# Altium footprint library Papilio_DUO.PcbLib: 39 footprints (part 1 of 3)
Each footprint in its own frame and in the unit in brackets; x right, y up, seen from the top. Pads: shape width x height; smd on the part's side, far side on the other; paste and mask are expansions set on the pad; w line width, h text height; cw(c..) or ccw(c..) is an arc to the next point about the centre after c.
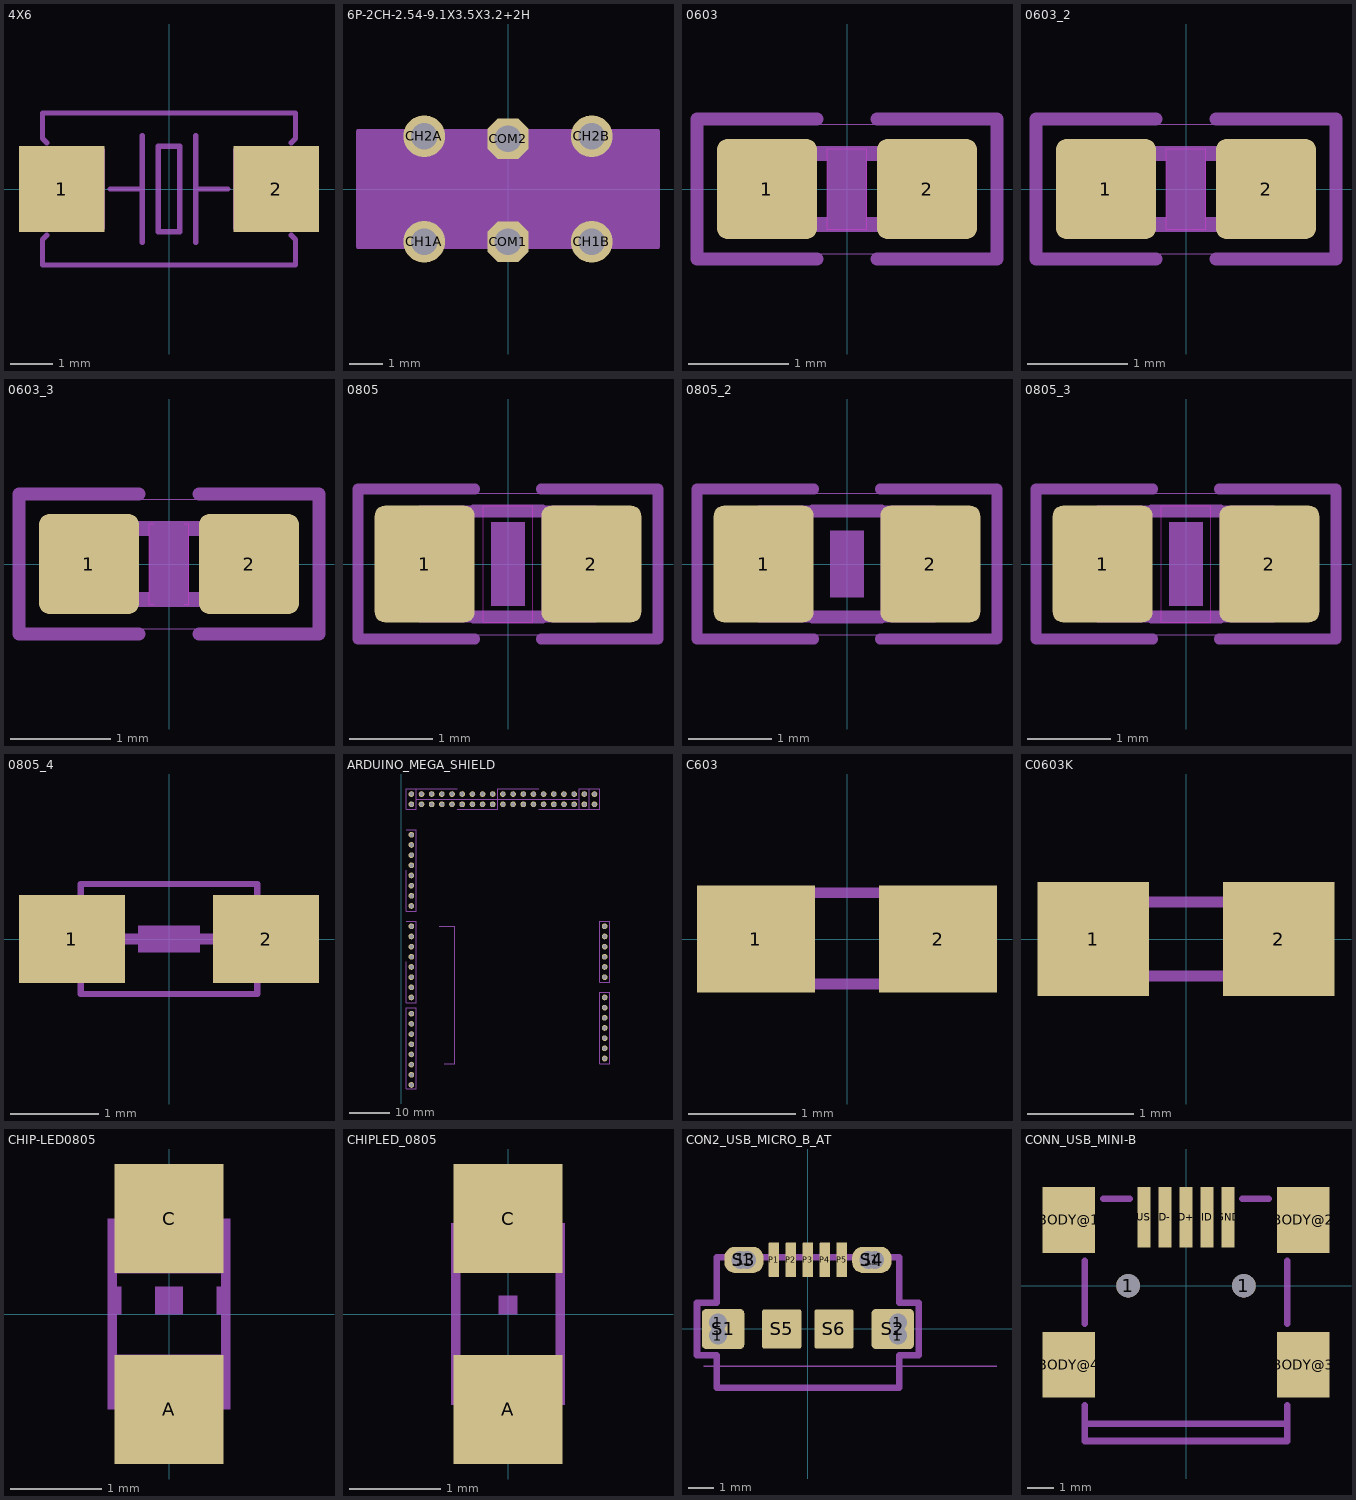
[diagram p0: the footprints below, top view; thin cyan lines are the x and y axes]

## 4X6 [mil]
pads (2):
  rect 80x80 smd: 1(-100,0) 2(100,0)
Mechanical 2:
  lines w5: -114.17,-43.31 -118.11,-47.24 -118.11,-70.87 118.11,-70.87 118.11,-47.24 114.17,-43.31 ; -114.17,43.31 -118.11,47.24 -118.11,70.87 118.11,70.87 118.11,47.24 114.17,43.31 ; -55,0 -25,0 ; -25,-50 -25,0 ; -25,50 -25,0 ; 25,-50 25,0 ; 25,50 25,0 ; 55,0 25,0 ; -10,-40 -10,40 10,40 10,-40 -10,-40
Mechanical 8:
  region: -120,-37.5 -120,37.5 -60,37.5 -60,-37.5
  region: 60,-37.5 60,37.5 120,37.5 120,-37.5

## 6P-2CH-2.54-9.1X3.5X3.2+2H [mil]
pads (6):
  round 50 hole 32: CH1A(-100,-62.99) CH1B(100,-62.99) CH2A(-100,62.99) CH2B(100,62.99)
  oct 48.41x48.41 hole 32: COM1(0,-62.99) COM2(0,60)
Mechanical 2:
  lines w5: -179.13,-68.9 179.13,-68.9 179.13,68.9 -179.13,68.9 -179.13,-68.9
Mechanical 16:
  region: 179.13,-68.9 -179.13,-68.9 -179.13,68.9 179.13,68.9

## 0603 [mm]
pads (2):
  rrect20% 1x1 smd: 1(-0.8,0) 2(0.8,0)
Top Layer keep-out:
  lines w0: -0.2,-0.4 0.2,-0.4 0.2,0.4 -0.2,0.4 -0.2,-0.4
Mechanical 2:
  lines w0.127: -0.3,-0.7 -1.5,-0.7 -1.5,0.7 -0.3,0.7 ; 0.3,-0.7 1.5,-0.7 1.5,0.7 0.3,0.7
Mechanical 8:
  region: 0.432,-0.432 0.432,0.432 0.838,0.432 0.838,-0.432
  region: -0.838,-0.432 -0.838,0.432 -0.432,0.432 -0.432,-0.432
  lines w0.152: -0.432,-0.356 0.432,-0.356 ; -0.432,0.356 0.432,0.356
Mechanical 16:
  region: -0.2,-0.4 -0.2,0.4 0.2,0.4 0.2,-0.4
  lines w0: -0.9,-0.1 -0.7,0.1 ; -0.9,0.1 -0.7,-0.1 ; 0.7,-0.1 0.9,0.1 ; 0.7,0.1 0.9,-0.1 ; -1.45,-0.65 1.45,-0.65 1.45,0.65 -1.45,0.65 -1.45,-0.65

## 0603_2 [mm]
pads (2):
  rrect20% 1x1 smd: 1(-0.8,0) 2(0.8,0)
Top Layer keep-out:
  lines w0: -0.2,-0.4 0.2,-0.4 0.2,0.4 -0.2,0.4 -0.2,-0.4
Mechanical 2:
  lines w0.127: -0.3,-0.7 -1.5,-0.7 -1.5,0.7 -0.3,0.7 ; 0.3,-0.7 1.5,-0.7 1.5,0.7 0.3,0.7
Mechanical 8:
  region: 0.432,-0.432 0.432,0.432 0.838,0.432 0.838,-0.432
  region: -0.838,-0.432 -0.838,0.432 -0.432,0.432 -0.432,-0.432
  lines w0.152: -0.432,-0.356 0.432,-0.356 ; -0.432,0.356 0.432,0.356
Mechanical 16:
  region: -0.2,-0.4 -0.2,0.4 0.2,0.4 0.2,-0.4
  lines w0: -0.9,-0.1 -0.7,0.1 ; -0.9,0.1 -0.7,-0.1 ; 0.7,-0.1 0.9,0.1 ; 0.7,0.1 0.9,-0.1 ; -1.45,-0.65 1.45,-0.65 1.45,0.65 -1.45,0.65 -1.45,-0.65

## 0603_3 [mm]
pads (2):
  rrect20% 1x1 smd: 1(-0.8,0) 2(0.8,0)
Top Layer keep-out:
  lines w0: -0.15,-0.4 -0.2,-0.4 -0.2,0.4 -0.15,0.4 ; 0.15,-0.4 0.2,-0.4 0.2,0.4 0.15,0.4
Mechanical 2:
  lines w0.127: -0.3,-0.7 -1.5,-0.7 -1.5,0.7 -0.3,0.7 ; 0.3,-0.7 1.5,-0.7 1.5,0.7 0.3,0.7
Mechanical 8:
  region: -0.838,-0.432 -0.838,0.432 -0.432,0.432 -0.432,-0.432
  region: 0.432,-0.432 0.432,0.432 0.838,0.432 0.838,-0.432
  lines w0.152: -0.432,-0.356 0.432,-0.356 ; -0.432,0.356 0.432,0.356
Mechanical 16:
  region: -0.2,-0.4 -0.2,0.4 0.2,0.4 0.2,-0.4
  lines w0: -0.9,-0.1 -0.7,0.1 ; -0.9,0.1 -0.7,-0.1 ; 0.7,-0.1 0.9,0.1 ; 0.7,0.1 0.9,-0.1 ; -1.45,-0.65 -1.45,0.65 1.45,0.65 1.45,-0.65 -1.45,-0.65

## 0805 [mm]
pads (2):
  rrect20% 1.2x1.4 smd: 1(-1,0) 2(1,0)
Top Layer keep-out:
  lines w0: -0.3,-0.7 -0.3,0.7 0.3,0.7 0.3,-0.7 -0.3,-0.7
Mechanical 2:
  lines w0.127: -0.4,-0.9 -1.8,-0.9 -1.8,0.9 -0.4,0.9 ; 0.4,-0.9 1.8,-0.9 1.8,0.9 0.4,0.9
Mechanical 8:
  region: -1.067,-0.699 -1.067,0.702 -0.417,0.702 -0.417,-0.699
  region: 0.406,-0.699 0.406,0.702 1.056,0.702 1.056,-0.699
  lines w0.152: -0.41,-0.635 0.41,-0.635 ; -0.41,0.635 0.41,0.635
Mechanical 16:
  region: -0.2,-0.5 -0.2,0.5 0.2,0.5 0.2,-0.5
  lines w0: -1.1,-0.1 -0.9,0.1 ; -1.1,0.1 -0.9,-0.1 ; 0.9,-0.1 1.1,0.1 ; 0.9,0.1 1.1,-0.1 ; -1.75,-0.85 -1.75,0.85 1.75,0.85 1.75,-0.85 -1.75,-0.85

## 0805_2 [mm]
pads (2):
  rrect20% 1.2x1.4 smd: 1(-1,0) 2(1,0)
Mechanical 2:
  lines w0.127: -0.4,-0.9 -1.8,-0.9 -1.8,0.9 -0.4,0.9 ; 0.4,-0.9 1.8,-0.9 1.8,0.9 0.4,0.9
Mechanical 8:
  region: -1.067,-0.699 -1.067,0.702 -0.417,0.702 -0.417,-0.699
  region: 0.406,-0.699 0.406,0.702 1.056,0.702 1.056,-0.699
  lines w0.152: -0.41,-0.635 0.41,-0.635 ; -0.41,0.635 0.41,0.635
Mechanical 16:
  region: -0.2,-0.4 -0.2,0.4 0.2,0.4 0.2,-0.4
  lines w0: -1.1,-0.1 -0.9,0.1 ; -1.1,0.1 -0.9,-0.1 ; 0.9,-0.1 1.1,0.1 ; 0.9,0.1 1.1,-0.1 ; -1.75,-0.85 -1.75,0.85 1.75,0.85 1.75,-0.85 -1.75,-0.85

## 0805_3 [mm]
pads (2):
  rrect20% 1.2x1.4 smd: 1(-1,0) 2(1,0)
Top Layer keep-out:
  lines w0: -0.3,-0.7 0.3,-0.7 0.3,0.7 -0.3,0.7 -0.3,-0.7
Mechanical 2:
  lines w0.127: -0.4,-0.9 -1.8,-0.9 -1.8,0.9 -0.4,0.9 ; 0.4,-0.9 1.8,-0.9 1.8,0.9 0.4,0.9
Mechanical 8:
  region: 0.406,-0.699 0.406,0.702 1.056,0.702 1.056,-0.699
  region: -1.067,-0.699 -1.067,0.702 -0.417,0.702 -0.417,-0.699
  lines w0.152: -0.41,-0.635 0.41,-0.635 ; -0.41,0.635 0.41,0.635
Mechanical 16:
  region: -0.2,-0.5 -0.2,0.5 0.2,0.5 0.2,-0.5
  lines w0: -1.1,-0.1 -0.9,0.1 ; -1.1,0.1 -0.9,-0.1 ; 0.9,-0.1 1.1,0.1 ; 0.9,0.1 1.1,-0.1 ; -1.75,-0.85 1.75,-0.85 1.75,0.85 -1.75,0.85 -1.75,-0.85

## 0805_4 [mm]
pads (2):
  rect 1.2x1 smd: 1(-1.1,0) 2(1.1,0)
Mechanical 3:
  region: -0.35,-0.15 -0.35,0.15 0.35,0.15 0.35,-0.15
  lines w0.07: -1,-0.625 1,-0.625 ; -1,0.625 1,0.625
  lines w0.127: -1.3,0 1.2,0
Mechanical 9:
  lines w0.07: -1,-0.625 -1,0.625 ; 1,-0.625 1,0.625
  lines w0.127: -1.1,0 1.1,0

## ARDUINO_MEGA_SHIELD [mil]
pads (75):
  round 56 hole 39.37: 3.3V(2000,1050) 3V3@1(1900,3350) 3V3@2(1900,3450) 5V@0(2000,1150) 5V@1(100,3350) 5V@2(100,3450) A0(2000,1650) A1(2000,1750) A2(2000,1850) A3(2000,1950) A4(2000,2050) A5(2000,2150) AREF(100,590) D2(100,1950) D3(100,1850) D4(100,1750) D5(100,1650) D6(100,1550) D7(100,1450) D8(100,1290) D9(100,1190) D10(100,1090) D11(100,990) D12(100,890) D13(100,790) D14(100,2350) D15(100,2450) D16(100,2550) D17(100,2650) D18(100,2750) D19(100,2850) D20(100,2950) D21(100,3050) D22(200,3350) D23(200,3450) D24(300,3350) D25(300,3450) D26(400,3350) D27(400,3450) D28(500,3350) D29(500,3450) D30(600,3350) D31(600,3450) D32(700,3350) D33(700,3450) D34(800,3350) D35(800,3450) D36(900,3350) D37(900,3450) D38(1000,3350) D39(1000,3450) D40(1100,3350) D41(1100,3450) D42(1200,3350) D43(1200,3450) D44(1300,3350) D45(1300,3450) D46(1400,3350) D47(1400,3450) D48(1500,3350) D49(1500,3450) D50(1600,3350) D51(1600,3450) D52(1700,3350) D53(1700,3450) GND@0(2000,1250) GND@1(2000,1350) GND@2(100,690) GND@3(1800,3350) GND@4(1800,3450) IOREF(2000,850) RES(2000,950) RX(100,2150) TX(100,2050) VIN(2000,1450)
Mechanical 16:
  lines w5: 50,1800 50,1400 150,1400 150,2200 50,2200 ; 50,2700 50,2300 150,2300 150,3100 50,3100 ; 375,2150 525,2150 525,800 425,800 ; 550,3300 950,3300 950,3500 1350,3500 ; 550,3500 150,3500 ; 1350,3300 1750,3300 ; 150,3400 150,3500 ; 150,3400 150,3300 50,3300 50,3500 150,3500 ; 150,3400 1750,3400 ; 1750,3300 1750,3400 ; 1750,3300 1850,3300 ; 1750,3400 1750,3500 1850,3500 ; 1850,3300 1950,3300 1950,3500 1850,3500 ; 1850,3300 1850,3500 ; 50,550 150,550 150,1350 50,1350 50,550 ; 1950,800 2050,800 2050,1500 1950,1500 1950,800 ; 1950,1600 2050,1600 2050,2200 1950,2200 1950,1600
Mechanical 75:
  text "GND" at 2037.81,1309.75 h62
  text "GND" at 2037.81,1409.75 h62
  text "5V" at 1985.6,1209.08 h62
  text "NC" at 1994.19,1509.75 h62
  text "3.3V" at 2031.82,1109.26 h62
  text "0" at 1946.39,1709.26 h62
  text "1" at 1935.14,1809.93 h62
  text "2" at 1946.94,1909.93 h62
  text "3" at 1946.45,2009.26 h62
  text "4" at 1948.03,2109.69 h62
  text "5" at 1946.82,2208.48 h62
  text "Analog In" at 1820.5,2055 h62
  text "GND" at 292.31,719.75 h62
  text "SCK 13" at 361.16,819.75 h62
  text "MISO 12" at 386.93,919.75 h62
  text "MOSI 11" at 379.67,1019.75 h62
  text "AREF" at 320.5,619.75 h62
  text "SS  10" at 336.41,1119.75 h62
  text "^9" at 228,1219.75 h62
  text "SCL ^8" at 350.27,1319.75 h62
  text "SDA  7" at 345.73,1469.75 h62
  text "6" at 201.26,1569.26 h62
  text "5" at 201.32,1668.48 h62
  text "^4" at 227.76,1770.41 h62
  text "3" at 200.95,1869.26 h62
  text "^2" at 227.51,1970.41 h62
  text "TX 1" at 280.69,2069.93 h62
  text "RX 0" at 291.34,2169.26 h62
  text "GND" at 1820,3510 h49.6
  text "^14" at 258.61,2365.41 h62
  text "^15" at 259.03,2464.75 h62
  text "^16" at 258.73,2564.75 h62
  text "17" at 228.12,2664.93 h62
  text "18" at 228.24,2764.26 h62
  text "19" at 228.24,2864.26 h62
  text "20" at 232.54,2964.26 h62
  text "21" at 225.03,3064.93 h62
  text "22" at 195,3507.13 h49.6
  text "24" at 295,3507.13 h49.6
  text "26" at 395,3507.13 h49.6
  text "28" at 495,3507.13 h49.6
  text "38" at 995,3507.13 h49.6
  text "40" at 1095,3507.13 h49.6
  text "42" at 1195,3507.13 h49.6
  text "44" at 1305,3507.13 h49.6
  text "31" at 625,3235 h49.6
  text "33" at 725,3235 h49.6
  text "35" at 825,3235 h49.6
  text "37" at 925,3235 h49.6
  text "47" at 1425,3235 h49.6
  text "49" at 1525,3235 h49.6
  text "51" at 1625,3235 h49.6
  text "53" at 1725,3235 h49.6
  text "23" at 225,3557.13 h49.6
  text "25" at 325,3557.13 h49.6
  text "27" at 425,3557.13 h49.6
  text "29" at 525,3557.13 h49.6
  text "39" at 1025,3557.13 h49.6
  text "41" at 1115,3557.13 h49.6
  text "43" at 1225,3557.13 h49.6
  text "45" at 1325,3557.13 h49.6
  text "30" at 595,3195 h49.6
  text "32" at 695,3195 h49.6
  text "34" at 795,3195 h49.6
  text "36" at 895,3195 h49.6
  text "46" at 1395,3195 h49.6
  text "48" at 1495,3195 h49.6
  text "50" at 1595,3195 h49.6
  text "52" at 1695,3195 h49.6
  text "5V Tolerant I/O     (PWM^)" at 470,1775 h49.6
  text "3.3V" at 1910,3510 h49.6
  text "5V" at 120,3510 h49.6
  text "IOREF" at 2082.28,909.75 h62
  text "RST" at 2025.95,1009.75 h62

## C603 [mm]
pads (2):
  rect 1.1x1 smd: 1(-0.85,0) 2(0.85,0)
Mechanical 8:
  region: -0.838,-0.47 -0.838,0.48 -0.338,0.48 -0.338,-0.47
  region: 0.83,0.48 0.83,-0.47 0.33,-0.47 0.33,0.48
  lines w0.102: -0.356,-0.419 0.356,-0.419 ; -0.356,0.432 0.356,0.432

## C0603K [mm]
pads (2):
  rect 1.05x1.08 smd: 1(-0.875,0) 2(0.875,0)
Mechanical 9:
  region: 0.45,-0.4 0.45,0.4 0.8,0.4 0.8,-0.4
  region: -0.8,-0.4 -0.8,0.4 -0.45,0.4 -0.45,-0.4
  lines w0.102: -0.725,-0.35 0.725,-0.35 ; -0.725,0.35 0.725,0.35

## CHIP-LED0805 [mm]
pads (2):
  rect 1.2x1.2 smd: A(0,-1.05) C(0,1.05)
Mechanical 2:
  region: -0.15,0 -0.15,0.3 0.15,0.3 0.15,0
  region: 0.525,0 0.525,0.3 0.675,0.3 0.675,0
  region: -0.675,0 -0.675,0.3 -0.525,0.3 -0.525,0
Mechanical 8:
  region: -0.675,-1.05 -0.675,-0.45 0.675,-0.45 0.675,-1.05
  region: -0.675,0.45 -0.675,1.05 0.675,1.05 0.675,0.45
  lines w0.102: -0.625,-0.45 -0.625,0.45 ; 0.625,-0.475 0.625,0.45

## CHIPLED_0805 [mm]
pads (2):
  rect 1.2x1.2 smd: A(0,-1.05) C(0,1.05)
Mechanical 2:
  region: -0.1,0 -0.1,0.2 0.1,0.2 0.1,0
Mechanical 8:
  circle w0.102: c-0.45,0.85 r0.103
  region: -0.625,0.925 -0.625,1 -0.3,1 -0.3,0.925
  region: -0.6,0.5 -0.6,0.8 -0.3,0.8 -0.3,0.5
  region: -0.2,-0.675 -0.2,-0.5 0.2,-0.5 0.2,-0.675
  region: -0.325,-0.75 -0.325,-0.5 -0.175,-0.5 -0.175,-0.75
  region: 0.175,-0.75 0.175,-0.5 0.325,-0.5 0.325,-0.75
  region: -0.625,-1 -0.625,-0.5 -0.3,-0.5 -0.3,-1
  region: 0.3,-1 0.3,-0.5 0.625,-0.5 0.625,-1
  region: -0.2,0.5 -0.2,0.675 0.2,0.675 0.2,0.5
  region: 0.175,0.5 0.175,0.75 0.325,0.75 0.325,0.5
  region: -0.325,0.5 -0.325,0.75 -0.175,0.75 -0.175,0.5
  region: 0.3,0.5 0.3,1 0.625,1 0.625,0.5
  lines w0.102: -0.575,-0.5 -0.575,0.925 ; -0.35,-0.925 cw(c0,-0.979) 0.35,-0.925 ; -0.35,0.925 ccw(c0,0.979) 0.35,0.925 ; 0.575,-0.525 0.575,0.525

## CON2_USB_MICRO_B_AT [mil]
pads (19):
  round 27.56 hole 27.56: 1(-138,-10) 1(-138,10) 1(-103,106) 1(-93,106) 1(93,106) 1(103,106) 1(138,-10) 1(138,10)
  rrect10% 16x53 smd: P1(-52,106) P2(-26,106) P3(0,106) P4(26,106) P5(52,106)
  rrect20% 65x61 smd paste-32.5: S1(-130,0) S2(130,0)
  rrect80% 60x40 smd paste-30: S3(-98,106) S4(98,106)
  rrect10% 60x60 smd: S5(-40,0) S6(40,0)
Top Paste:
  lines w5: -155,-23 -155,23 ; -121,-25 -121,26 -117,26 ; -116,26 -117,26 ; -114,93 cw(c-114,98) -119,98 -120,113 cw(c-114,113) -114,119 ; -106,25 -106,-25 -108,-25 -108,25 -112,25 -112,-25 -117,-25 -117,26 ; -82,93 ccw(c-82,98) -77,98 -77,114 ccw(c-82,114) -82,119 ; 81,94 cw(c81,99) 76,99 76,113 cw(c81,113) 81,118 ; 106,23 106,-23 111,-23 111,23 116,23 116,-24 120,-24 ccw(c120,-23) 121,-23 121,24 ; 114,93 ccw(c114,98) 119,98 119,114 ccw(c114,114) 114,119 ; 154,-23 154,23 ; -159,-17 ccw(c-149,-17) -149,-27 -111,-27 ccw(c-111,-17) -101,-17 -101,17 ccw(c-111,17) -111,27 -149,27 ccw(c-149,17) -159,17 -159,-17 ; -124,99 ccw(c-114,99) -114,89 -82,89 ccw(c-82,99) -72,99 -72,113 ccw(c-82,113) -82,123 -114,123 ccw(c-114,113) -124,113 -124,99 ; 72,99 ccw(c82,99) 82,89 114,89 ccw(c114,99) 124,99 124,113 ccw(c114,113) 114,123 82,123 ccw(c82,113) 72,113 72,99 ; 102,-17 ccw(c112,-17) 112,-27 148,-27 ccw(c148,-17) 158,-17 158,17 ccw(c148,17) 148,27 112,27 ccw(c112,17) 102,17 102,-17
Mechanical 2:
  lines w2: -160,-57 290,-57
  lines w10: -170,-40 -170,40 -140,40 -140,110 140,110 140,40 170,40 170,-40 140,-40 140,-90 -140,-90 -140,-40 -170,-40

## CONN_USB_MINI-B [mm]
pads (11):
  round 0.9 hole 0.9: 1(-2.2,0) 1(2.2,0)
  rect 2x2.5 smd: BODY@1(-4.45,2.5) BODY@2(4.45,2.5) BODY@3(4.45,-3) BODY@4(-4.45,-3)
  rect 0.5x2.3 smd: D+(0,2.6) D-(-0.8,2.6) GND(1.6,2.6) ID(0.8,2.6) VUSB(-1.6,2.6)
Mechanical 2:
  lines w0.254: -3.85,-4.55 -3.85,-5.25 3.85,-5.25 3.85,-4.55 ; -3.85,-1.45 -3.85,0.95 ; -3.15,3.3 -2.15,3.3 ; 2.15,3.3 3.15,3.3 ; 3.85,-1.45 3.85,0.95
Mechanical 16:
  lines w0.254: -3.85,-5.25 -3.85,-5.9 3.85,-5.9 3.85,-5.25